# Altium schematic symbol library Schlib1.SchLib: 5 symbols
Pins are listed as number, name and electrical type; pins without a type are passive.

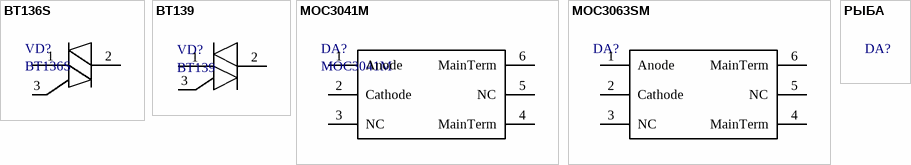
[diagram p0: symbols BT136S to РЫБА]

## BT136S
designator VD?
BT136S-600D,118
footprint D-PAK
pins: 1 T1, 2 T2, 3 gate

## BT139
designator VD?
footprint TO-220
footprint TO-220 -H
pins: 1 T1, 2 T2, 3 gate

## MOC3041M
designator DA?
footprint DIP_6
pins: 1 Anode, 2 Cathode, 3 NC, 4 MainTerm, 5 NC, 6 MainTerm

## MOC3063SM
designator DA?  (value not drawn)
ManufacturerPartNumber: MOC3063SM; Manufacturer: onsemi; Rem: *; Package: SMT 6; Value: *; Tolerance: *; Power/Voltage: *; TKE: *; Quantity: *; Примечание: *
footprint SMT_6
pins: 1 Anode, 2 Cathode, 3 NC, 4 MainTerm, 5 NC, 6 MainTerm

## РЫБА
designator DA?  (value not drawn)
Rem: *; Package: *; Value: *; Tolerance: *; Power/Voltage: *; TKE: *; ManufacturerPartNumber: *; Manufacturer: *; Quantity: *; Примечание: *